# Altium footprint library TSR1-2433E.PcbLib: 1 footprints
Each footprint in its own frame and in the unit in brackets; x right, y up, seen from the top. Pads: shape width x height; smd on the part's side, far side on the other; paste and mask are expansions set on the pad; w line width, h text height; cw(c..) or ccw(c..) is an arc to the next point about the centre after c.
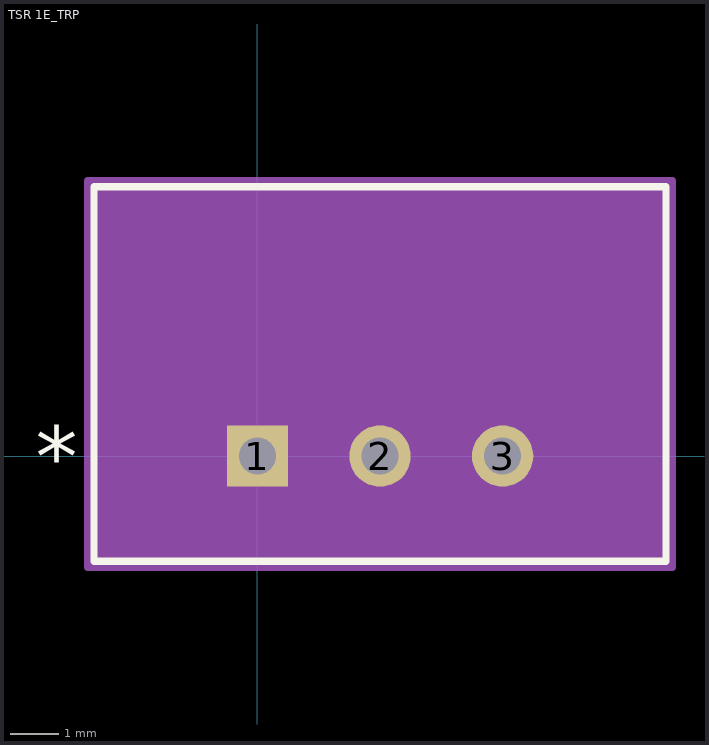
[diagram p0: the footprint, top view; thin cyan lines are the x and y axes]

## TSR 1E_TRP [mil]
pads (3):
  rect 50x50 / inner round 60 / far side rect 50x50 hole 30 paste-25 mask+0: 1(0,0)
  round 50 / inner round 60 / far side round 50 hole 30 paste-25 mask+0: 2(100,0) 3(200,0)
Top Overlay:
  lines w6: -133.35,-85.71 -133.35,219.57 333.35,219.57 333.35,-85.71 -133.35,-85.71
  text "*" at -180.85,-25 h50
Mechanical 13:
  lines w1: -128.35,-80.71 -128.35,214.57 328.35,214.57 328.35,-80.71 -128.35,-80.71
  text "*" at -130.85,-25 h50
Mechanical 15:
  region: 338.35,-90.71 -138.35,-90.71 -138.35,224.57 338.35,224.57
  lines w6: -138.35,-90.71 338.35,-90.71 338.35,224.57 -138.35,224.57 -138.35,-90.71
3D body "TSR1E_TRP.step": height 401.57, standoff -180, extent -128.35,-147.64 328.35,147.64